# EAGLE library part XE1203F (library GLEE_packages)
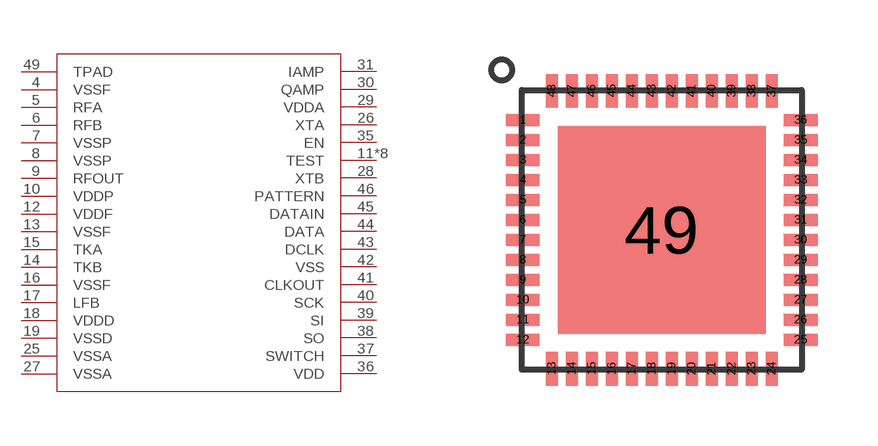
[diagram p2: symbol with the pads of XE1203F; footprint XE1203F]

Designator prefix IC

## XE1203F  [XE1203F]
4  VSSF
5  RFA
6  RFB
7  VSSP
8  VSSP
9  RFOUT
10  VDDP
11  TEST
12  VDDF
13  VSSF
14  TKB
15  TKA
16  VSSF
17  LFB
18  VDDD
19  VSSD
20  TEST
21  TEST
23  TEST
24  TEST
25  VSSA
26  XTA
27  VSSA
28  XTB
29  VDDA
30  QAMP
31  IAMP
32  TEST
33  TEST
34  TEST
35  EN
36  VDD
37  SWITCH
38  SO
39  SI
40  SCK
41  CLKOUT
42  VSS
43  DCLK
44  DATA
45  DATAIN
46  PATTERN
49  TPAD

## Footprint XE1203F (pad centres in mm)
smd 0.85 x 0.3: 1 -3.475,2.75; 2 -3.475,2.25; 3 -3.475,1.75; 4 -3.475,1.25; 5 -3.475,0.75; 6 -3.475,0.25; 7 -3.475,-0.25; 8 -3.475,-0.75; 9 -3.475,-1.25; 10 -3.475,-1.75; 11 -3.475,-2.25; 12 -3.475,-2.75; 25 3.475,-2.75; 26 3.475,-2.25; 27 3.475,-1.75; 28 3.475,-1.25; 29 3.475,-0.75; 30 3.475,-0.25; 31 3.475,0.25; 32 3.475,0.75; 33 3.475,1.25; 34 3.475,1.75; 35 3.475,2.25; 36 3.475,2.75
smd 0.3 x 0.85: 13 -2.75,-3.475; 14 -2.25,-3.475; 15 -1.75,-3.475; 16 -1.25,-3.475; 17 -0.75,-3.475; 18 -0.25,-3.475; 19 0.25,-3.475; 20 0.75,-3.475; 21 1.25,-3.475; 22 1.75,-3.475; 23 2.25,-3.475; 24 2.75,-3.475; 37 2.75,3.475; 38 2.25,3.475; 39 1.75,3.475; 40 1.25,3.475; 41 0.75,3.475; 42 0.25,3.475; 43 -0.25,3.475; 44 -0.75,3.475; 45 -1.25,3.475; 46 -1.75,3.475; 47 -2.25,3.475; 48 -2.75,3.475
smd 5.2 x 5.2: 49 0,0